# Altium footprint library 采集主板V1.1_ZM_20210713.PcbLib: 37 footprints (part 3 of 3)
Each footprint in its own frame and in the unit in brackets; x right, y up, seen from the top. Pads: shape width x height; smd on the part's side, far side on the other; paste and mask are expansions set on the pad; w line width, h text height; cw(c..) or ccw(c..) is an arc to the next point about the centre after c.
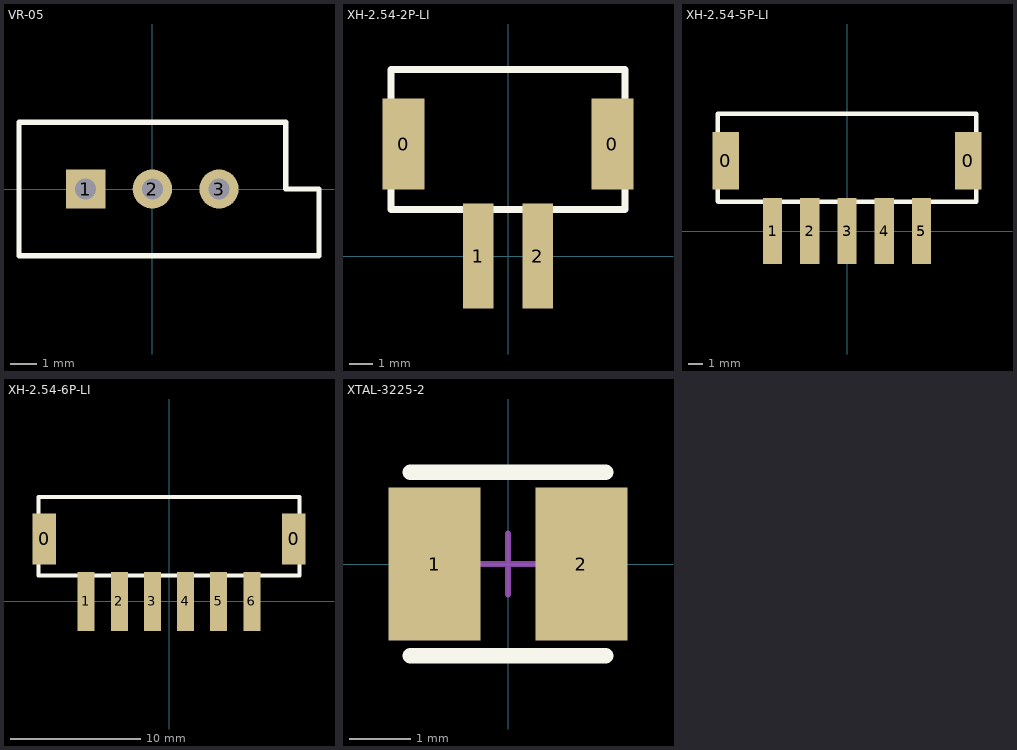
[diagram p2: the footprints below, top view; thin cyan lines are the x and y axes]

## VR-05 [mm] "立式精密变阻器"
height 10
pads (3):
  rect 1.5x1.5 hole 0.8: 1(-2.54,0)
  round 1.5 hole 0.8: 2(0,0) 3(2.54,0)
Top Overlay:
  lines w0.2: -5.08,-2.54 -5.08,2.54 5.08,2.54 5.08,0 6.35,0 6.35,-2.54 -5.08,-2.54

## XH-2.54-2P-LI [mm] "接插件2.54-2P"
height 10
pads (4):
  rect 1.8x3.9 smd: 0(-4.47,4.8) 0(4.47,4.8)
  rect 1.3x4.5 smd: 1(-1.27,0) 2(1.27,0)
Top Overlay:
  lines w0.3: -5,2 5,2 5,8 -5,8 -5,2.032

## XH-2.54-5P-LI [mm] "接插件2.54-3P"
height 10
pads (7):
  rect 1.8x3.9 smd: 0(-8.28,4.8) 0(8.28,4.8)
  rect 1.3x4.5 smd: 1(-5.08,0) 2(-2.54,0) 3(0,0) 4(2.54,0) 5(5.08,0)
Top Overlay:
  lines w0.3: -8.81,2.032 -8.81,8 8.81,8 8.81,2 -8.77,2
3D body: height -0.4, standoff -8, extent -6.25,-0.889 6.25,8.011

## XH-2.54-6P-LI [mm] "接插件2.54-6P"
pads (8):
  rect 1.8x3.9 smd: 0(-9.55,4.8) 0(9.55,4.8)
  rect 1.3x4.5 smd: 1(-6.35,0) 2(-3.81,0) 3(-1.27,0) 4(1.27,0) 5(3.81,0) 6(6.35,0)
Top Overlay:
  lines w0.3: -10,2 10,2 10,8 -10,8 -10,2.032
3D body "User Library-XH2_54-4P-AW.STEP": height -0.4, standoff -8, extent -6.25,-0.889 6.25,8.011

## XTAL-3225-2 [mm] "3225晶振两脚"
height 2
pads (2):
  rect 1.5x2.5 smd: 1(-1.2,0) 2(1.2,0)
Top Overlay:
  lines w0.254: -1.6,-1.5 1.6,-1.5 ; -1.6,1.5 1.6,1.5
Mechanical 15:
  lines w0.1: -0.5,0 0.5,0 ; 0,-0.5 0,0.5
3D body: height 0.9, standoff 0, extent -1.6,-1.25 1.6,1.25